# Altium footprint library IC-SOT.PcbLib: 26 footprints (part 2 of 2)
Each footprint in its own frame and in the unit in brackets; x right, y up, seen from the top. Pads: shape width x height; smd on the part's side, far side on the other; paste and mask are expansions set on the pad; w line width, h text height; cw(c..) or ccw(c..) is an arc to the next point about the centre after c.
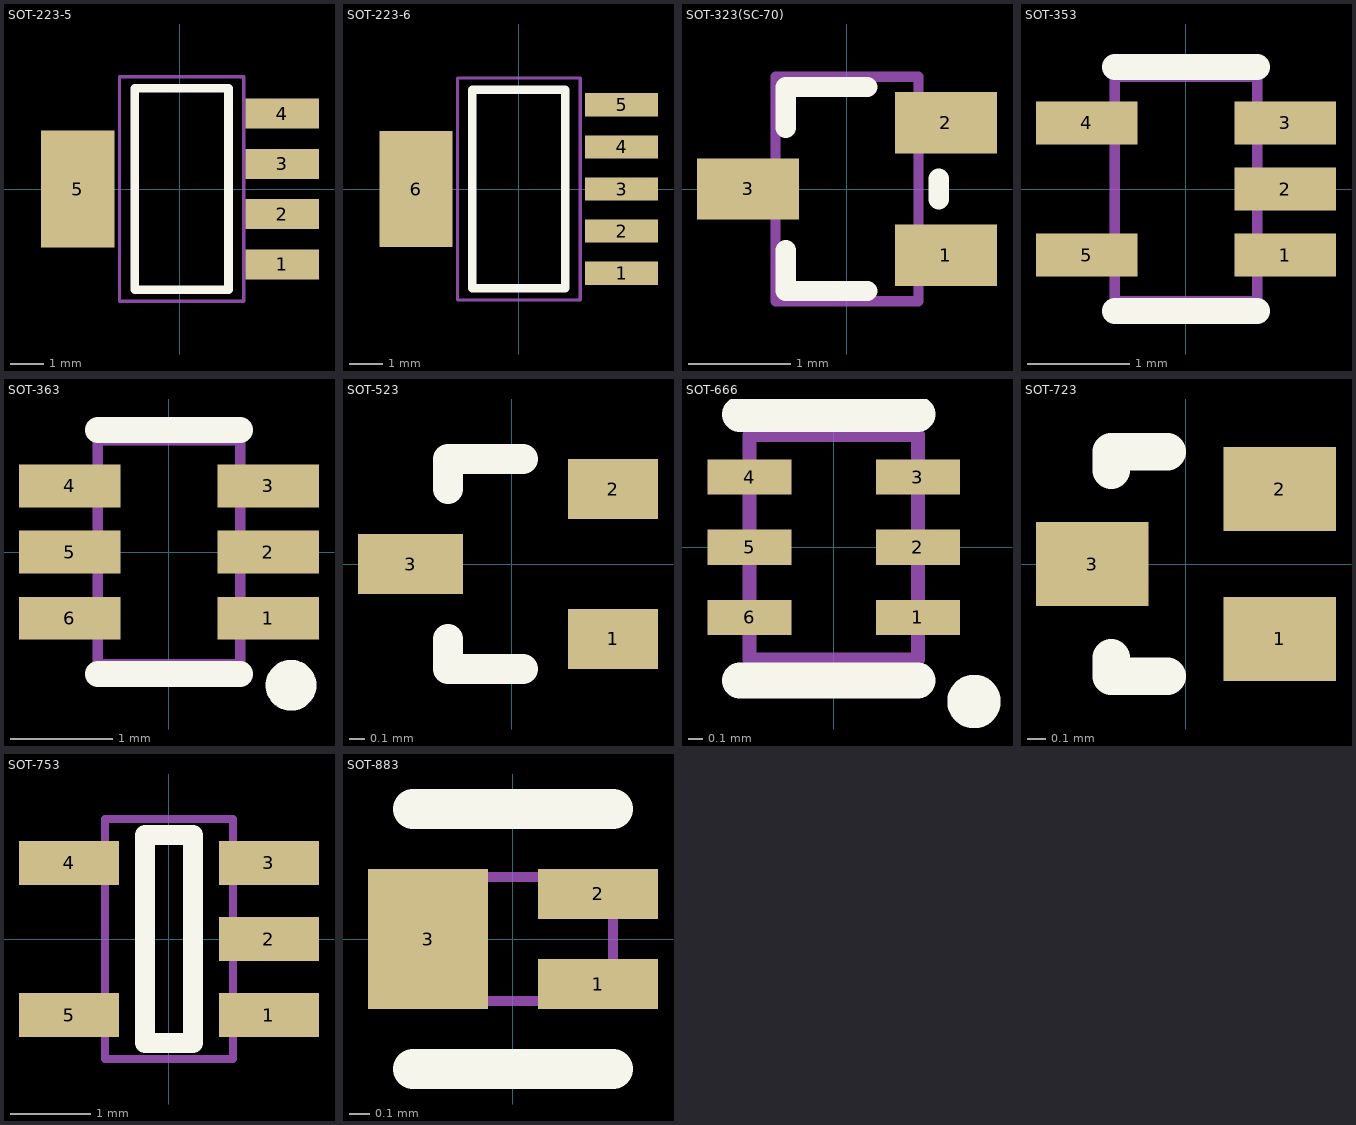
[diagram p1: the footprints below, top view; thin cyan lines are the x and y axes]

## SOT-223-5 [mm]
pads (5):
  rect 2.2x0.9 smd: 1(3.05,-2.25) 2(3.05,-0.75) 3(3.05,0.75) 4(3.05,2.25)
  rect 2.2x3.5 smd: 5(-3.05,0)
Top Overlay:
  lines w0.254: -1.35,-3 -1.35,3 1.45,3 1.45,-3 -1.35,-3
Mechanical 13:
  lines w0.1: -1.8,-3.35 1.9,-3.35 1.9,3.35 -1.8,3.35 -1.8,-3.35
3D body "User Library-User Library-SOT-223-5.STEP": height 1.64, standoff -0.01, extent -3.45,-3.25 3.55,3.25

## SOT-223-6 [mm]
pads (6):
  rect 2.2x0.7 smd: 1(3.1,-2.54) 2(3.1,-1.27) 3(3.1,0) 4(3.1,1.27) 5(3.1,2.54)
  rect 2.2x3.5 smd: 6(-3.1,0)
Top Overlay:
  lines w0.254: -1.4,-3 -1.4,3 1.4,3 1.4,-3 -1.4,-3
Mechanical 13:
  lines w0.1: -1.85,-3.35 1.85,-3.35 1.85,3.35 -1.85,3.35 -1.85,-3.35
3D body "User Library-TPS73701DCQ.STEP": height 1.8, standoff 0, extent -3.63,-3.275 3.63,3.275

## SOT-323(SC-70) [mm]
pads (3):
  rect 1x0.6 smd: 1(0.97,-0.65) 2(0.97,0.65) 3(-0.97,0)
Top Overlay:
  lines w0.2: -0.6,-0.6 -0.6,-1 0.2,-1 ; -0.6,0.6 -0.6,1 0.2,1 ; 0.9,-0.1 0.9,0.1
Mechanical 13:
  lines w0.1: -0.7,-1.1 -0.7,1.1 0.7,1.1 0.7,-1.1 -0.7,-1.1
3D body "User Library-SOT323 (SC70-3)-1.STEP": height 1.1, standoff 0, extent -1.123,-1.1 1.122,1.1

## SOT-353 [mm]
pads (5):
  rect 1x0.42 smd mask+0.051: 1(0.975,-0.65) 2(0.975,0) 3(0.975,0.65) 4(-0.975,0.65) 5(-0.975,-0.65)
Top Overlay:
  lines w0.254: -0.7,-1.2 0.7,-1.2 ; -0.7,1.2 0.7,1.2
Mechanical 13:
  lines w0.1: -0.7,-1.1 0.7,-1.1 0.7,1.1 -0.7,1.1 -0.7,-1.1

## SOT-363 [mm]
pads (6):
  rect 1x0.42 smd mask+0.051: 1(0.975,-0.65) 2(0.975,0) 3(0.975,0.65) 4(-0.975,0.65) 5(-0.975,0) 6(-0.975,-0.65)
Top Overlay:
  circle w0.25: c1.2,-1.31 r0.125
  lines w0.254: -0.7,-1.2 0.7,-1.2 ; -0.7,1.2 0.7,1.2
Mechanical 13:
  lines w0.1: -0.7,-1.1 0.7,-1.1 0.7,1.1 -0.7,1.1 -0.7,-1.1

## SOT-523 [mm]
pads (3):
  rect 0.6x0.4 smd: 1(0.675,-0.5) 2(0.675,0.5)
  rect 0.7x0.4 smd: 3(-0.675,0)
Top Overlay:
  lines w0.203: -0.425,-0.5 -0.425,-0.7 0.075,-0.7 ; -0.425,0.5 -0.425,0.7 0.075,0.7
3D body "User Library-SOT-523.STEP": height 0.8, standoff 0, extent -0.825,-0.8 0.775,0.8

## SOT-666 [mm]
pads (6):
  rect 0.6x0.25 smd mask+0.051: 1(0.6,-0.5) 2(0.6,0) 3(0.6,0.5) 4(-0.6,0.5) 5(-0.6,0) 6(-0.6,-0.5)
Top Overlay:
  circle w0.203: c1,-1.1 r0.089
  lines w0.254: -0.67,-0.95 0.6,-0.95 ; -0.67,0.95 0.6,0.95
Mechanical 13:
  lines w0.1: -0.6,-0.8 0.6,-0.8 0.6,0.8 -0.6,0.8 -0.6,-0.8

## SOT-723 [mm]
pads (3):
  rect 0.6x0.45 smd: 1(0.5,-0.4) 2(0.5,0.4) 3(-0.5,0)
Top Overlay:
  lines w0.2: -0.4,-0.5 -0.4,-0.6 -0.1,-0.6 ; -0.4,0.5 -0.4,0.6 -0.1,0.6
3D body "User Library-SOT-723.STEP": height 0.45, standoff -0.01, extent -0.525,-0.625 0.525,0.625

## SOT-753 [mm]
pads (5):
  rect 1.25x0.55 smd: 1(1.25,-0.95) 2(1.25,0) 3(1.25,0.95) 4(-1.25,0.95) 5(-1.25,-0.95)
Top Overlay:
  lines w0.254: -0.3,-1.3 0.3,-1.3 0.3,1.3 -0.3,1.3 -0.3,-1.3
Mechanical 13:
  lines w0.1: -0.8,-1.5 -0.8,1.5 0.8,1.5 0.8,-1.5 -0.8,-1.5

## SOT-883 [mm]
pads (3):
  rect 0.6x0.25 smd mask+0.051: 1(0.425,-0.225) 2(0.425,0.225)
  rect 0.6x0.7 smd mask+0.051: 3(-0.425,0)
Top Overlay:
  lines w0.2: -0.5,-0.65 0.5,-0.65 ; -0.5,0.65 0.5,0.65
Mechanical 13:
  lines w0.051: -0.5,-0.31 0.5,-0.31 0.5,0.31 -0.5,0.31 -0.5,-0.31